# Altium footprint library Connection.PcbLib: 1 footprints
Each footprint in its own frame and in the unit in brackets; x right, y up, seen from the top. Pads: shape width x height; smd on the part's side, far side on the other; paste and mask are expansions set on the pad; w line width, h text height; cw(c..) or ccw(c..) is an arc to the next point about the centre after c.
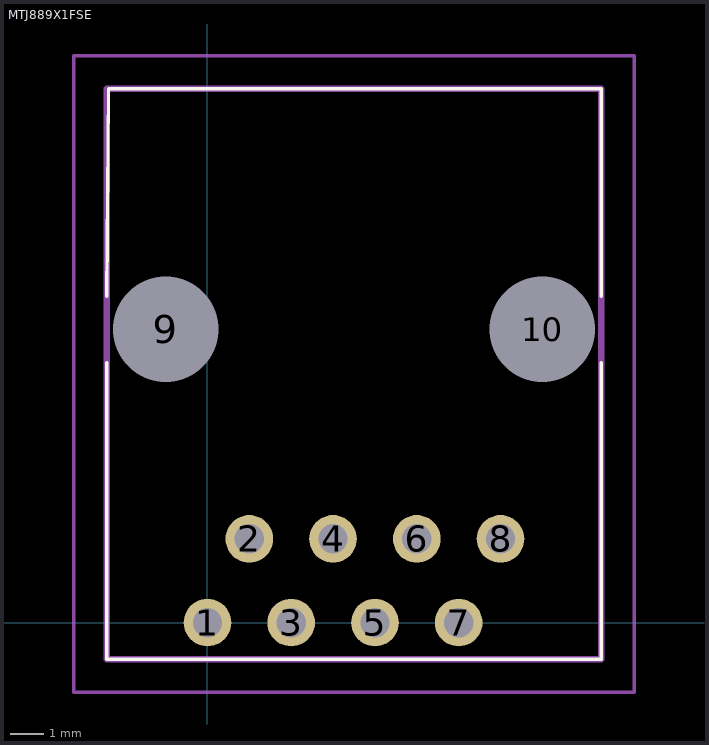
[diagram p0: the footprint, top view; thin cyan lines are the x and y axes]

## MTJ889X1FSE [mm]
pads (10):
  round 1.446 hole 0.89: 1(0,0) 2(1.27,2.54) 3(2.54,0) 4(3.81,2.54) 5(5.08,0) 6(6.35,2.54) 7(7.62,0) 8(8.89,2.54)
  round 1.6 hole 3.2 unplated: 9(-1.27,8.89) 10(10.16,8.89)
Top Overlay:
  lines w0.1: -3.055,7.89 -3.055,-1.11 11.945,-1.11 11.945,7.89 ; -3.055,9.89 -3,16.19 11.945,16.19 11.945,9.89
Mechanical 15:
  lines w0.2: -3.055,-1.11 11.945,-1.11 11.945,16.19 -3.055,16.19 -3.055,-1.11
Mechanical 20:
  lines w0.1: -4.055,-2.11 12.945,-2.11 12.945,17.19 -4.055,17.19 -4.055,-2.11
3D body "MTJ-889X1-FSE.stp": height 12.4, standoff -5, extent -3.055,-1.11 11.945,16.19